# Altium schematic symbol library pin6header.SchLib: 1 symbol
Pins are listed as number, name and electrical type; pins without a type are passive.

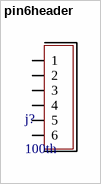
[diagram p0: symbol pin6header]

## pin6header
designator j?, comment 100th
footprint pin6header
footprint pin6headerF
pins: 1, 2, 3, 4, 5, 6